# Altium footprint library PCB_2020-12-24_11-34-08_2020-12-24_12-19-50.PcbLib: 12 footprints
Each footprint in its own frame and in the unit in brackets; x right, y up, seen from the top. Pads: shape width x height; smd on the part's side, far side on the other; paste and mask are expansions set on the pad; w line width, h text height; cw(c..) or ccw(c..) is an arc to the next point about the centre after c.
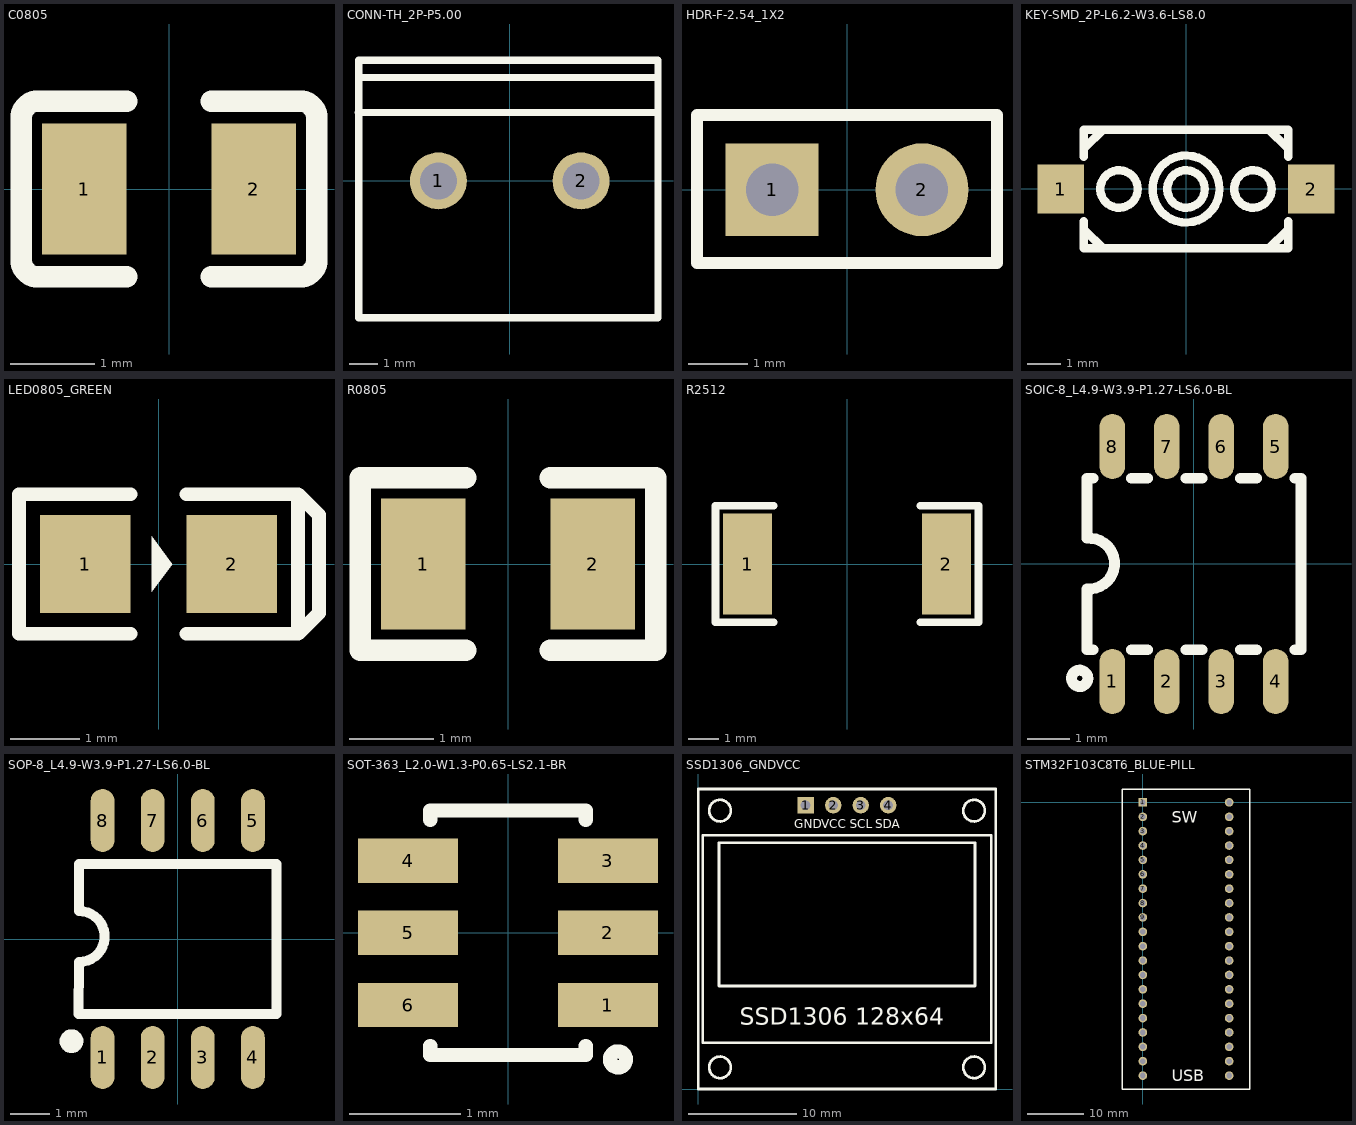
[diagram p0: the footprints below, top view; thin cyan lines are the x and y axes]

## C0805 [mm]
pads (2):
  rect 1x1.55 smd: 1(-1,0) 2(1,0)
Top Overlay:
  lines w0.254: -1.75,0.82 -1.75,0.8 ; -0.5,-1.04 -1.55,-1.04 cw(c-1.55,-0.84) -1.75,-0.84 -1.75,-0.8 -1.75,0.8 ; -0.5,1.04 -1.55,1.04 ccw(c-1.55,0.84) -1.75,0.84 -1.75,0.8 ; 0.5,-1.04 1.55,-1.04 ccw(c1.55,-0.84) 1.75,-0.84 1.75,-0.8 1.75,0.8 1.75,0.84 ccw(c1.55,0.84) 1.55,1.04 0.5,1.04

## CONN-TH_2P-P5.00 [mm]
pads (2):
  round 2 hole 1.3: 1(-2.504,0) 2(2.504,0)
Top Overlay:
  lines w0.254: -5.325,2.401 5.175,2.401 ; -5.295,3.631 5.205,3.631 ; -5.295,4.201 -5.295,-4.799 5.205,-4.799 ; -5.295,4.231 5.205,4.231 5.205,-4.769

## HDR-F-2.54_1X2 [mil]
pads (2):
  rect 62x62 hole 35: 1(-50,0)
  round 62 hole 35: 2(50,0)
Top Overlay:
  lines w8: -100,-49 -100,50 100,50 100,-49 -100,-49

## KEY-SMD_2P-L6.2-W3.6-LS8.0 [mm]
pads (2):
  rect 1.4x1.5 smd: 1(-3.8,0) 2(3.8,0)
Top Overlay:
  circle w0.254: c0,0 r0.568
  circle w0.254: c0,0 r1.016
  circle w0.254: c2.032,0 r0.568
  circle w0.254: c-2.032,0 r0.568
  lines w0.254: -3.1,-0.981 -3.1,-1.8 3.1,-1.8 3.1,-0.981 ; -3.1,0.981 -3.1,1.8 3.1,1.8 3.1,0.981 ; -3.048,-1.27 -2.54,-1.778 ; -3.048,1.27 -2.54,1.778 ; 2.54,-1.778 3.048,-1.27 ; 2.54,1.778 3.048,1.27

## LED0805_GREEN [mil]
pads (2):
  rect 51.2x55.1 smd: 1(-41.35,0) 2(41.35,0)
Top Overlay:
  region: -3.94,15.75 -3.94,-15.75 7.87,0
  lines w7.87: -15.75,-39.37 -78.74,-39.37 -78.74,39.37 -15.75,39.37 ; 15.75,-39.37 78.74,-39.37 ; 15.75,39.37 78.74,39.37 ; 78.74,-39.37 90.55,-27.56 90.55,27.56 78.74,39.37 ; 78.74,-39.37 78.74,39.37

## R0805 [mm]
pads (2):
  rect 1x1.55 smd: 1(-1,0) 2(1,0)
Top Overlay:
  lines w0.254: -0.5,-1.02 -1.75,-1.02 -1.75,1.02 -0.5,1.02 ; 0.5,-1.02 1.75,-1.02 1.75,1.02 0.5,1.02

## R2512 [mm]
pads (2):
  rect 1.6x3.3 smd: 1(-3.25,0) 2(3.25,0)
Top Overlay:
  lines w0.254: -2.4,-1.9 -4.3,-1.9 -4.3,1.9 -2.4,1.9 ; 2.4,-1.9 4.3,-1.9 4.3,1.9 2.4,1.9

## SOIC-8_L4.9-W3.9-P1.27-LS6.0-BL [mm]
pads (8):
  oval 0.6x1.518 smd: 1(-1.905,-2.74) 2(-0.635,-2.74) 3(0.635,-2.74) 4(1.905,-2.74) 5(1.905,2.74) 6(0.635,2.74) 7(-0.635,2.74) 8(-1.905,2.74)
Top Overlay:
  circle w0.254: c-2.667,-2.667 r0.191
  lines w0.254: -2.5,-0.58 -2.5,-2 -2.356,-2 ; -2.5,0.6 -2.5,2 -2.356,2 ; -2.49,-0.58 ccw(c-2.445,0.01) -2.49,0.6 ; -1.454,-2 -1.086,-2 ; -1.454,2 -1.086,2 ; -0.184,-2 0.184,-2 ; -0.184,2 0.184,2 ; 1.086,-2 1.454,-2 ; 1.086,2 1.454,2 ; 2.356,-2 2.5,-2 2.5,2 2.356,2

## SOP-8_L4.9-W3.9-P1.27-LS6.0-BL [mm]
pads (8):
  oval 0.6x1.598 smd: 1(-1.905,-3) 2(-0.635,-3) 3(0.635,-3) 4(1.905,-3) 5(1.905,3) 6(0.635,3) 7(-0.635,3) 8(-1.905,3)
Top Overlay:
  lines w0.254: -2.515,-1.905 -2.5,-0.584 ccw(c-2.5,0.064) -2.5,0.711 ; -2.5,-1.9 2.5,-1.9 2.5,1.9 -2.5,1.9 -2.5,0.711
  lines w0.3: -2.692,-2.438 ccw(c-2.691,-2.588) -2.69,-2.438

## SOT-363_L2.0-W1.3-P0.65-LS2.1-BR [mm]
pads (6):
  rect 0.9x0.4 smd: 1(0.9,-0.65) 2(0.9,0) 3(0.9,0.65) 4(-0.9,0.65) 5(-0.9,0) 6(-0.9,-0.65)
Top Overlay:
  circle w0.127: c0.99,-1.14 r0.072
  lines w0.127: -0.7,-1.018 -0.7,-1.1 0.7,-1.1 0.7,-1.018 ; -0.7,1.018 -0.7,1.1 0.7,1.1 0.7,1.018

## SSD1306_GNDVCC [mil]
pads (4):
  rect 60x60 hole 36: 1(390.59,1033.48)
  round 60 hole 36: 2(491.3,1033.5) 3(591.3,1033.5) 4(691.3,1033.5)
Top Overlay:
  circle w10: c1003.94,1013.78 r39.37
  circle w10: c78.74,1013.78 r39.37
  circle w10: c1003.94,78.74 r39.37
  circle w10: c78.74,78.74 r39.37
  lines w10: 0,0 0,1092.52 1082.68,1092.52 1082.68,0 0,0 ; 15.75,168.5 15.75,924.01 1066.93,924.01 1066.93,168.5 15.75,168.5 ; 74.8,374.8 74.8,896.45 1007.87,896.45 1007.87,374.8 74.8,374.8
  text "SCL" at 551.1,949.65 h31.5
  text "SDA" at 643.6,949.25 h31.5
  text "GND" at 349.2,948.85 h31.5
  text "VCC" at 446.8,948.85 h31.5
  text "SSD1306 128x64" at 150,233.5 h62.99

## STM32F103C8T6_BLUE-PILL [mil]
pads (40):
  rect 60x60 hole 40: 1(0,0)
  round 60 hole 40: 2(0,-100) 3(0,-200) 4(0,-300) 5(0,-400) 6(0,-500) 7(0,-600) 8(0,-700) 9(0,-800) 10(0,-900) 11(0,-1000) 12(0,-1100) 13(0,-1200) 14(0,-1300) 15(0,-1400) 16(0,-1500) 17(0,-1600) 18(0,-1700) 19(0,-1800) 20(0,-1900) 21(600,-1900) 22(600,-1800) 23(600,-1700) 24(600,-1600) 25(600,-1500) 26(600,-1400) 27(600,-1300) 28(600,-1200) 29(600,-1100) 30(600,-1000) 31(600,-900) 32(600,-800) 33(600,-700) 34(600,-600) 35(600,-500) 36(600,-400) 37(600,-300) 38(600,-200) 39(600,-100) 40(600,0)
Top Overlay:
  lines w10: -142.91,-1993.3 -142.91,93.31 742.92,93.31 742.92,-1993.3 -142.91,-1993.3
  text "USB" at 200,-1940 h80
  text "SW" at 200,-140 h80